# Altium footprint library MOS单路驱动PCB封装库.PcbLib: 13 footprints
Each footprint in its own frame and in the unit in brackets; x right, y up, seen from the top. Pads: shape width x height; smd on the part's side, far side on the other; paste and mask are expansions set on the pad; w line width, h text height; cw(c..) or ccw(c..) is an arc to the next point about the centre after c.
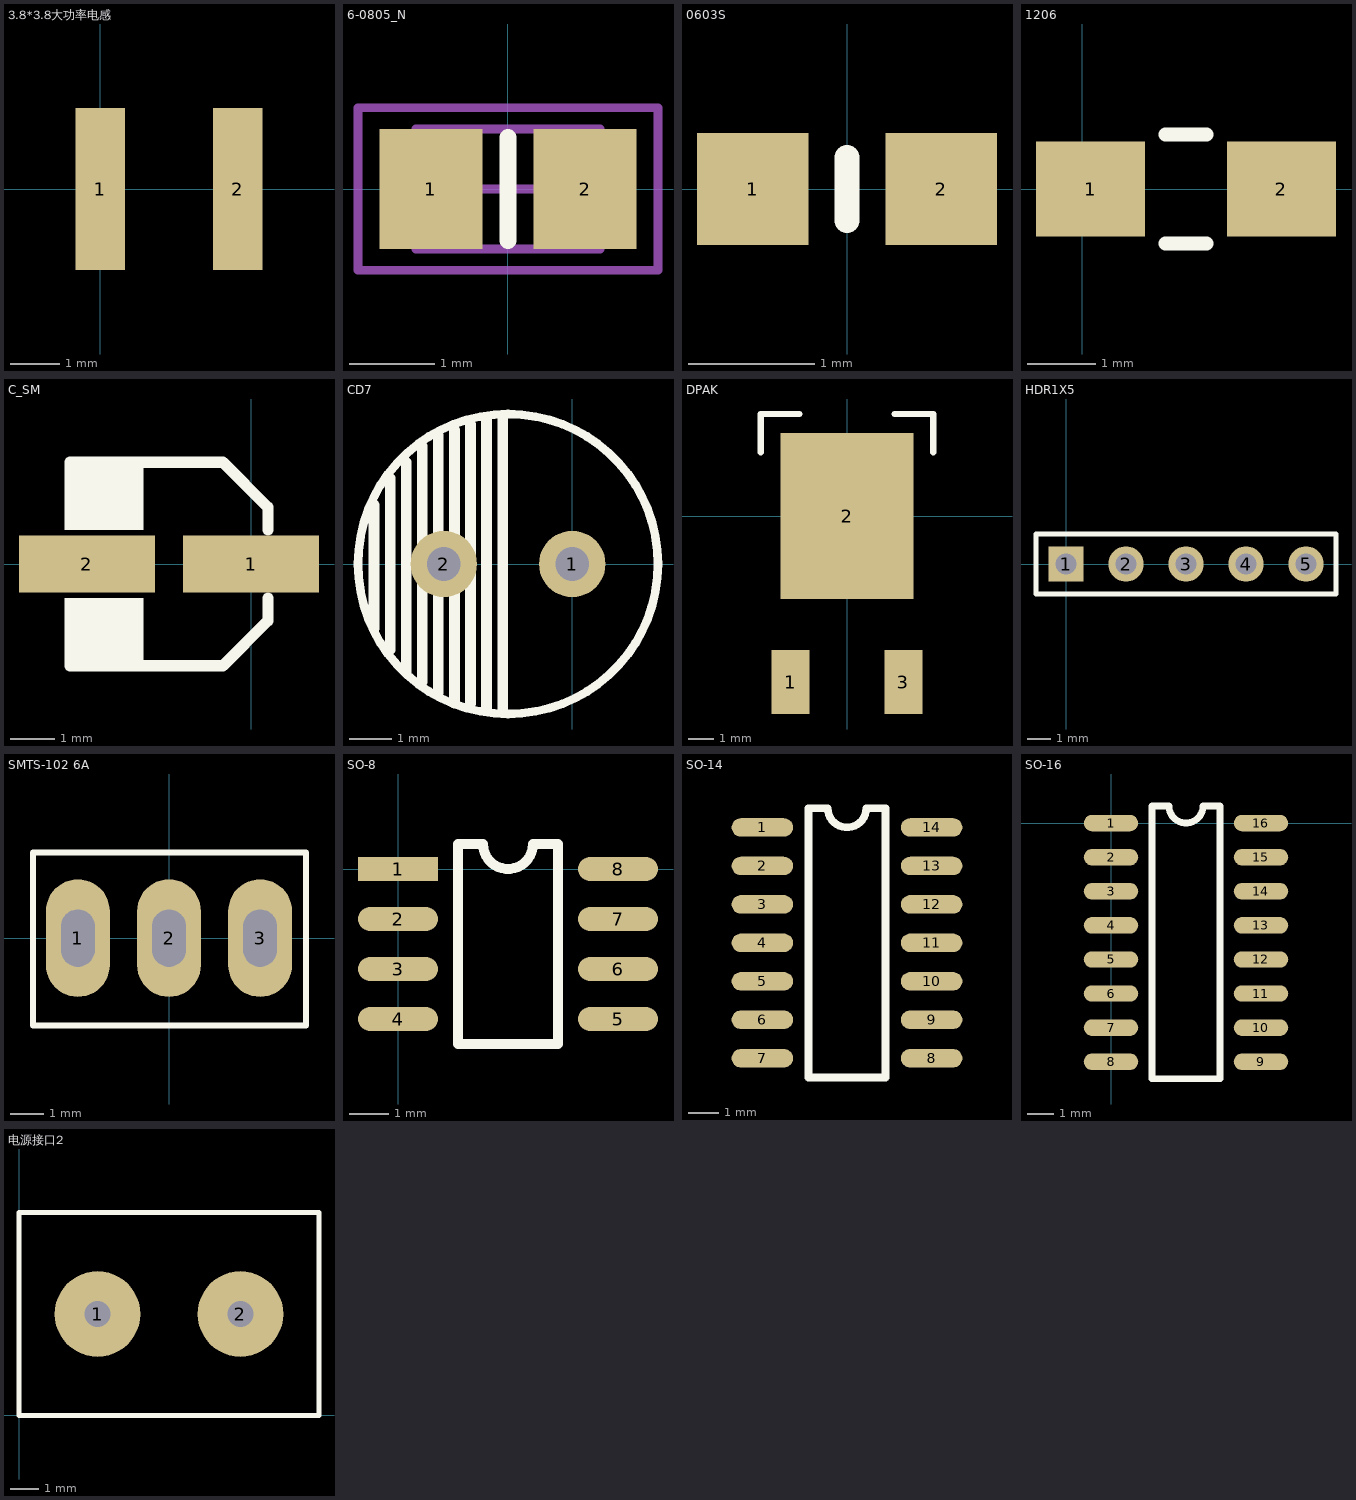
[diagram p0: the footprints below, top view; thin cyan lines are the x and y axes]

## 3.8*3.8大功率电感 [mm]
pads (2):
  rect 1x3.3 smd: 1(0,0) 2(2.794,0)

## 6-0805_N [mm] "Chip Resistor, Body 2.0x1.2mm, IPC Medium Density"
height 0.7
pads (2):
  rect 1.2x1.4 smd: 1(-0.9,0) 2(0.9,0)
Top Overlay:
  lines w0.2: 0,-0.6 0,0.6
Mechanical 13:
  lines w0.1: -1.075,-0.7 -1.075,0.7 1.075,0.7 1.075,-0.7 -1.075,-0.7
Mechanical 15:
  lines w0.1: -0.5,0 0.5,0 ; 0,-0.5 0,0.5 ; -1.75,-0.95 -1.75,0.95 1.75,0.95 1.75,-0.95 -1.75,-0.95
3D body: height 0.7, standoff 0, extent -1.075,-0.7 1.075,0.7

## 0603S [mil]
pads (2):
  rect 35x35 smd: 1(-29.5,0) 2(29.5,0)
Top Overlay:
  lines w7.87: 0,-9.84 0,9.84
3D body: height 20, standoff 0, extent -29.53,-17.72 31.5,17.72

## 1206 [mil]
height 68.9
pads (2):
  rect 62.99x55 smd: 1(4.88,0) 2(115.12,0)
Top Overlay:
  lines w7.87: 48.19,-31.5 71.81,-31.5 ; 48.19,31.5 71.81,31.5
3D body: height 40, standoff 0, extent -5,-25 125,25

## C_SM [mil]
pads (2):
  rect 120x50 smd: 1(0,0) 2(-145,0)
Top Overlay:
  rectangle: -165,30 -95,90
  rectangle: -165,-90 -95,-30
  lines w10: -160,-90 -25,-90 15,-50 15,-30 ; -160,90 -25,90 15,50 15,30

## CD7 [mil]
height 68.9
pads (2):
  round 62 hole 31.5: 1(0,0) 2(-120,0)
Top Overlay:
  circle w8: c-60,0 r140
  lines w10: -185,-60 -185,55 ; -170,-80 -170,80 ; -155,-100 -155,95 ; -140,-110 -140,110 ; -125,-120 -125,120 ; -110,-130 -110,125 ; -95,-130 -95,130 ; -80,-135 -80,135 ; -65,-135 -65,135

## DPAK [mil]
height 68.9
pads (3):
  rect 59.06x100 smd: 1(-88.5,-260) 3(88.5,-260)
  rect 208.66x260 smd: 2(0,0)
Top Overlay:
  lines w10: -135,100 -135,160 -75,160 ; 75,160 135,160 135,100

## HDR1X5 [mm] "Connector; Header; 5 Position"
pads (5):
  rect 1.5x1.5 hole 0.9: 1(0,0)
  round 1.5 hole 0.9: 2(2.54,0) 3(5.08,0) 4(7.62,0) 5(10.16,0)
Top Overlay:
  lines w0.2: -1.27,-1.27 -1.27,1.27 11.43,1.27 11.43,-1.27 -1.27,-1.27

## SMTS-102 6A [mm]
pads (3):
  oval 1.9x3.5 hole 1 slot 1.7 at 90 deg: 1(-2.71,0) 2(0,0) 3(2.71,0)
Top Overlay:
  lines w0.178: -4.04,-2.59 -4.04,0 -4.04,2.54 0,2.54 4.08,2.54 4.08,0 4.08,-2.59 0,-2.59 -4.04,-2.59

## SO-8 [mil]
height 68.9
pads (8):
  rect 80x24 smd: 1(0,0)
  oval 80x24 smd: 2(0,-50) 3(0,-100) 4(0,-150) 5(220,-150) 6(220,-100) 7(220,-50) 8(220,0)
Top Overlay:
  lines w10: 60,-175 60,25 85,25 ccw(c110,25) 135,25 160,25 160,-175 60,-175

## SO-14 [mil]
pads (14):
  oval 80x24 smd: 1(142,-76) 2(142,-126) 3(142,-176) 4(142,-226) 5(142,-276) 6(142,-326) 7(142,-376) 8(362,-376) 9(362,-326) 10(362,-276) 11(362,-226) 12(362,-176) 13(362,-126) 14(362,-76)
Top Overlay:
  lines w10: 202,-401 202,-51 227,-51 ccw(c252,-51) 277,-51 302,-51 302,-401 202,-401

## SO-16 [mil]
height 68.9
pads (16):
  oval 80x24 smd: 1(0,0) 2(0,-50) 3(0,-100) 4(0,-150) 5(0,-200) 6(0,-250) 7(0,-300) 8(0,-350) 9(220,-350) 10(220,-300) 11(220,-250) 12(220,-200) 13(220,-150) 14(220,-100) 15(220,-50) 16(220,0)
Top Overlay:
  lines w10: 60,-375 160,-375 160,25 135,25 cw(c110,25) 85,25 60,25 60,-375

## 电源接口2 [mm]
height 1.75
pads (2):
  round 3 hole 0.914: 1(2.75,3.55) 2(7.75,3.55)
Top Overlay:
  lines w0.178: 0,0 10.5,0 10.5,7.1 0,7.1 0,0